# Altium schematic symbol library TPD4EUSB30DQAR.SchLib: 1 symbol
Pins are listed as number, name and electrical type; pins without a type are passive.

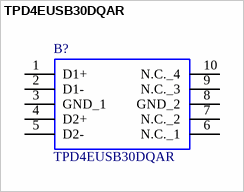
[diagram p0: symbol TPD4EUSB30DQAR]

## TPD4EUSB30DQAR
designator B?
Texas Instruments TPD4EUSB30DQAR, USB Controller, 6Gbit/s, USB 3.0, 10-Pin SON; Manufacturer_Name: Texas Instruments; Manufacturer_Part_Number: TPD4EUSB30DQAR; Mouser Part Number: 595-TPD4EUSB30DQAR; Mouser Price/Stock: https://www.mouser.co.uk/ProductDetail/Texas-Instruments/TPD4EUSB30DQAR?qs=Ze4%2FuFuz19JpY4uqYOLMbQ%3D%3D; Arrow Part Number: TPD4EUSB30DQAR; Arrow Price/Stock: https://www.arrow.com/en/products/tpd4eusb30dqar/texas-instruments?utm_currency=USD&region=nac; Datasheet Link: http://www.ti.com/lit/gpn/tpd4eusb30
footprint DQA(R-PUSON-N10)
pins: 1 D1+, 2 D1-, 3 GND_1, 4 D2+, 5 D2-, 6 N.C._1, 7 N.C._2, 8 GND_2, 9 N.C._3, 10 N.C._4